# EAGLE library part TXD2-L (library Panasonic Relay)
TX-D - 2 Form C - 1 coil latching Data sheet <https://www.panasonic-electric-works.com/eu/download.htm?id=55286> Parameters Max. switching voltage: 220V DC Max. switching current: Standard contact: 2A; AgPd contact: 1A Operational function: Single side stable, 1 coil latching Contact arrangement: 2 CO Applications Modem Communication (xDSL) Medical equipment Security Options Also available as single side stable version.
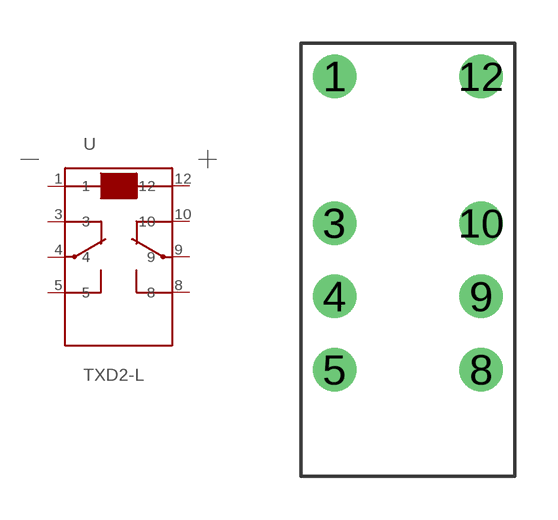
[diagram p31: symbol with the pads of TX/-TH/-D/-S_SSS/1CLT; footprint TX/-TH/-D/-S_SSS/1CLT]

Designator prefix -

## TXD2-L-12V (U_COIL: 12V DC), TXD2-L-24V (U_COIL: 24V DC), TXD2-L-3V (U_COIL: 3V DC), TXD2-L-4.5V (U_COIL: 4.5V DC), TXD2-L-5V (U_COIL: 5V DC), TXD2-L-6V (U_COIL: 6V DC), TXD2-L-9V (U_COIL: 9V DC)  [TX/-TH/-D/-S_SSS/1CLT]
1  1
3  3
4  4
5  5
8  8
9  9
10  10
12  12

## Footprint TX/-TH/-D/-S_SSS/1CLT (pad centres in mm)
drill 1: 1 -2.54,6.35; 3 -2.54,1.27; 4 -2.54,-1.27; 5 -2.54,-3.81; 8 2.54,-3.81; 9 2.54,-1.27; 10 2.54,1.27; 12 2.54,6.35